# EAGLE library part LMR14010ADDCT (library dc-dc)
Buck Switching Regulator IC Positive Adjustable 0.765V 1 Output 1A SOT-23-6 Thin, TSOT-23-6 Datasheet <http://www.ti.com/lit/ds/symlink/lmr14010a.pdf>
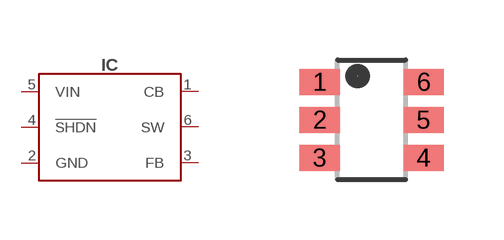
[diagram p9: symbol with the pads of SOT23-6; footprint SOT23-6]

Designator prefix IC

## LMR14010ADDCT (DIGIKEY#: 296-49072-2-ND; MANF: Texas Instruments; MANF#: LMR14010ADDCT)  [SOT23-6]
1  CB
2  GND
3  FB
4  !SHDN
5  VIN
6  SW

## Footprint SOT23-6 (pad centres in mm)
smd 1 x 0.65: 1 -1.3,0.95; 2 -1.3,0; 3 -1.3,-0.95; 4 1.3,-0.95; 5 1.3,0; 6 1.3,0.95